# EAGLE library part TLV5616 (library EE445L)
TLV5616 12-bit DAC SSI digital input, one analog output Vout = (2*n*Vref)/4096
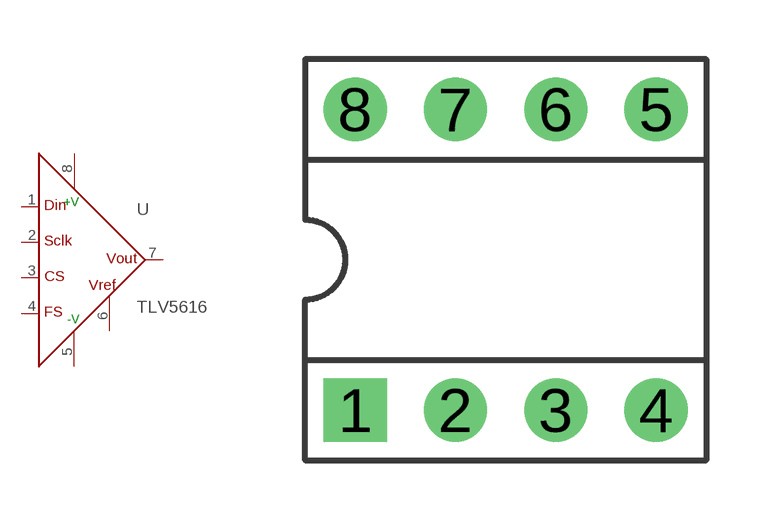
[diagram p27: symbol with the pads of DIL08; footprint DIL08]

Designator prefix U

## TLV5616  [DIL08]
1  DIN  in
2  SCLK  in
3  CS  in
4  FS  in
5  AGND  pwr
6  REFIN  pas
7  OUT  out
8  VDD  pwr

## Footprint DIL08 (pad centres in mm)
Dual In Line 0.8mm holes, 2.54mm=100mil spacing
drill 1 pad 1.6 square: 1 -3.81,-3.81
drill 1 pad 1.6: 2 -1.27,-3.81; 3 1.27,-3.81; 4 3.81,-3.81; 5 3.81,3.81; 6 1.27,3.81; 7 -1.27,3.81; 8 -3.81,3.81